# Altium schematic symbol library QUTMS-Project-AMU.SchLib: 104 symbols
Pins are listed as number, name and electrical type; pins without a type are passive.

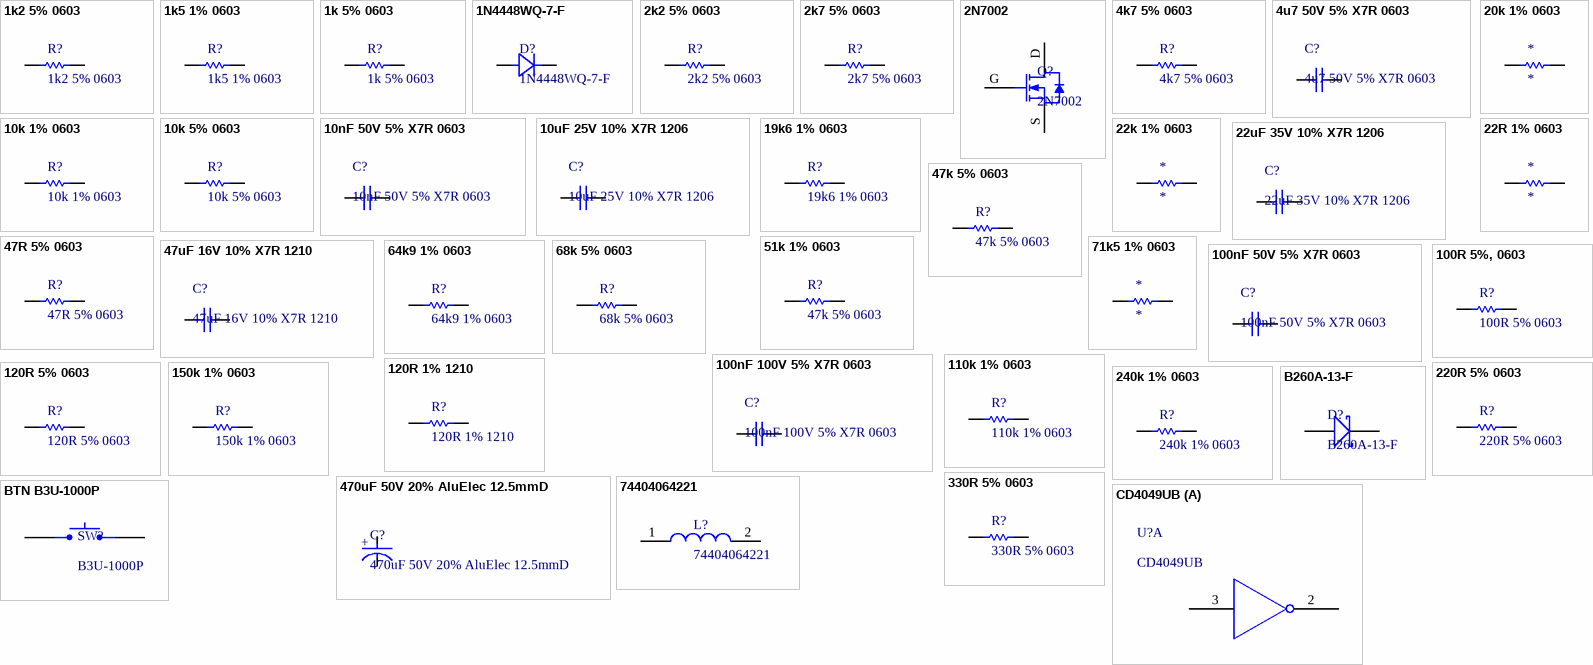
[diagram p0: symbols 1k2 5% 0603 to CD4049UB]

## 1k2 5% 0603
designator R?
Resistor, SMD, 1k2, 0.1W, 5%, 0603
footprint Res_ThinFilm_0603
pins: 1, 2

## 1k5 1% 0603
designator R?
Resistor, SMD, 1k5, 0.1W, 1%, 0603
footprint Res_ThinFilm_0603
pins: 1, 2

## 1k 5% 0603
designator R?
Resistor, SMD, 1k, 0.1W, 5%, 0603
footprint Res_ThinFilm_0603
pins: 1, 2

## 1N4448WQ-7-F
designator D?
Diode, SMD, 75V, 5%, 250mA, SOD123; Manufacturer: ON Semiconductor / Fairchild; Manufacturer Part Number: 1N914BWS; Average Rectified Current: 150mA; Element Configuration: Single; Forward Voltage: 1V; Max Reverse Leakage Current: 5uA; Power Dissipation: 200mW; Recovery Time: 4ns; Max Forward Surge Current (Ifsm): 4A; Parameter 1: *; Weight: 0.0276g; Category: Rectifier Diodes; Contact Plating: Tin,Matte; Forward Current: 150mA; Lead Free: Lead Free; Max Operating Temperature: 150°C; Max Repetitive Reverse Voltage (Vrrm): 75V; Max Reverse Voltage (DC): 75V; Min Operating Temperature: -55°C; Mount: Surface Mount; Number of Pins: 2; Package Quantity: 1; Packaging: Tape and Reel; Peak Reverse Current: 5uA; Radiation Hardening: No; REACH SVHC: No SVHC; Reverse Recovery Time: 4ns; Height: 1mm; Length: 1.8mm; Reverse Voltage: 75V; Width: 1.35mm
footprint SMA
pins: A Anode, K Cathode

## 2k2 5% 0603
designator R?
Resistor, SMD, 2k2, 0.1W, 5%, 0603
footprint Res_ThinFilm_0603
pins: 1, 2

## 2k7 5% 0603
designator R?
Resistor, SMD, 2k7, 0.1W, 5%, 0603
footprint Res_ThinFilm_0603
pins: 1, 2

## 2N7002
designator Q?
footprint SOT23-3 (SOT23, 3-Leads, Body 2.90x2.45mm, Pitch 0.95mm, IPC Medium Density)
pins: D, G, S

## 4k7 5% 0603
designator R?
Resistor, SMD, 4k7, 0.1W, 5%, 0603
footprint Res_ThinFilm_0603
pins: 1, 2

## 4u7 50V 5% X7R 0603
designator C?
Capacitor, Ceramic, SMD, 4u7, 50V, 5%, X7R, 0603
footprint Cap_Ceramic_0603
pins: 1, 2

## 10k 1% 0603
designator R?
Resistor, SMD, 10k, 0.1W, 1%, 0603
footprint Res_ThinFilm_0603
pins: 1, 2

## 10k 5% 0603
designator R?
Resistor, SMD, 10k, 0.1W, 5%, 0603
footprint Res_ThinFilm_0603
pins: 1, 2

## 10nF 50V 5% X7R 0603
designator C?
Capacitor, Ceramic, SMD, 10nF, 50V, 5%, X7R, 0603
footprint Cap_Ceramic_0603
pins: 1, 2

## 10uF 25V 10% X7R 1206
designator C?
Capacitor, Ceramic, SMD, 10uF, 25V, 10%, X7R, 1206
footprint Cap_Ceramic_1206
pins: 1, 2

## 19k6 1% 0603
designator R?
Resistor, SMD, 19k6, 0.1W, 5%, 0603
footprint Res_ThinFilm_0603
pins: 1, 2

## 20k 1% 0603
designator *
Resistor, SMD, 20k, 0.1W, 1%, 0603
footprint Res_ThinFilm_0603
pins: 1, 2

## 22k 1% 0603
designator *
Resistor, SMD, 22k, 0.1W, 1%, 0603
footprint Res_ThinFilm_0603
pins: 1, 2

## 22R 1% 0603
designator *
Resistor, SMD, 22R, 0.1W, 1%, 0603
footprint Res_ThinFilm_0603
pins: 1, 2

## 22uF 35V 10% X7R 1206
designator C?
Capacitor, Ceramic, SMD, 22uF, 35V, 10%, X7R, 1206
footprint Cap_Ceramic_1206
pins: 1, 2

## 47k 5% 0603
designator R?
Resistor, SMD, 47k, 0.1W, 5%, 0603
footprint Res_ThinFilm_0603
pins: 1, 2

## 47R 5% 0603
designator R?
Resistor, SMD, 47R, 0.1W, 5%, 0603
footprint Res_ThinFilm_0603
pins: 1, 2

## 47uF 16V 10% X7R 1210
designator C?
Capacitor, Ceramic, SMD, 47uF, 16V, 5%, X7R, 1210
footprint Cap_Ceramic_1210
pins: 1, 2

## 51k 1% 0603
designator R?, comment 47k 5% 0603
Resistor, SMD, 51k, 0.1W, 1%, 0603
footprint Res_ThinFilm_0603
pins: 1, 2

## 64k9 1% 0603
designator R?
Resistor, SMD, 64k9, 0.1W, 5%, 0603
footprint Res_ThinFilm_0603
pins: 1, 2

## 68k 5% 0603
designator R?
Resistor, SMD, 68k, 0.1W, 5%, 0603
footprint Res_ThinFilm_0603
pins: 1, 2

## 71k5 1% 0603
designator *
Resistor, SMD, 71k5, 0.1W, 1%, 0603
footprint Res_ThinFilm_0603
pins: 1, 2

## 100nF 50V 5% X7R 0603
designator C?
Capacitor, Ceramic, SMD, 100nF, 50V, 5%, X7R, 0603
footprint Cap_Ceramic_0603
pins: 1, 2

## 100nF 100V 5% X7R 0603
designator C?
Capacitor, Ceramic, SMD, 100nF, 100V, 5%, X7R, 0603
footprint Cap_Ceramic_0603
pins: 1, 2

## 100R 5%, 0603
designator R?, comment 100R 5% 0603
Resistor, SMD, 100R, 0.1W, 5%, 0603
footprint Res_ThinFilm_0603
pins: 1, 2

## 110k 1% 0603
designator R?
Resistor, SMD, 110k, 0.1W, 1%, 0603
footprint Res_ThinFilm_0603
pins: 1, 2

## 120R 1% 1210
designator R?
Resistor, SMD, 120R, 0.25W, 1%, 1210
footprint Res_ThinFilm_1210
pins: 1, 2

## 120R 5% 0603
designator R?
Resistor, SMD, 120R, 0.1W, 5%, 0603
footprint Res_ThinFilm_0603
pins: 1, 2

## 150k 1% 0603
designator R?
Resistor, SMD, 150k, 0.1W, 1%, 0603
footprint Res_ThinFilm_0603
pins: 1, 2

## 220R 5% 0603
designator R?
Resistor, SMD, 220R, 0.1W, 5%, 0603
footprint Res_ThinFilm_0603
pins: 1, 2

## 240k 1% 0603
designator R?
Resistor, SMD, 240k, 0.1W, 1%, 0603
footprint Res_ThinFilm_0603
pins: 1, 2

## 330R 5% 0603
designator R?
Resistor, SMD, 330R, 0.1W, 5%, 0603
footprint Res_ThinFilm_0603
pins: 1, 2

## 470uF 50V 20% AluElec 12.5mmD
designator C?
Capacitor, AluElec, SMD, 470F, 50V, 20%, AluElec, 12.5mmD
footprint CAL_ALU_12.5mmD_20mmL
pins: A, K
text: +

## 74404064221
designator L?
FIXED IND 220UH 660MA 850 MOHM; ComponentLink1Description: Digikey; ComponentLink1URL: https://www.digikey.com.au/product-detail/en/w%C3%BCrth-elektronik/74404064221/732-7261-1-ND/5353241; ComponentLink2Description: LCSC A; ComponentLink2URL: https://lcsc.com/product-detail/Power-Inductors_Sunlord-SWPA6045S221MT_C91047.html; ComponentLink3Description: LCSC B; ComponentLink3URL: https://lcsc.com/product-detail/Power-Inductors_SXN-Shun-Xiang-Nuo-Elec-SMNR6045-221MT_C467145.html
footprint Inductor_6x6mm
pins: 1, 2

## B260A-13-F
designator D?
Diode, Schottky Barrier Rectifier, 60 V, 2 A, B260A-13-F
footprint SMA
pins: A, K

## BTN B3U-1000P
designator SW?, comment B3U-1000P
Omron B3U-1000P Ultra Miniture Switch; ComponentLink1Description: LCSC; ComponentLink1URL: https://lcsc.com/product-detail/Tactile-Switches_BRIGHT-TSA063G50-250_C294565.html
footprint BTN B3U-1000P (OMRON B3U-1000P)
pins: 1, 2

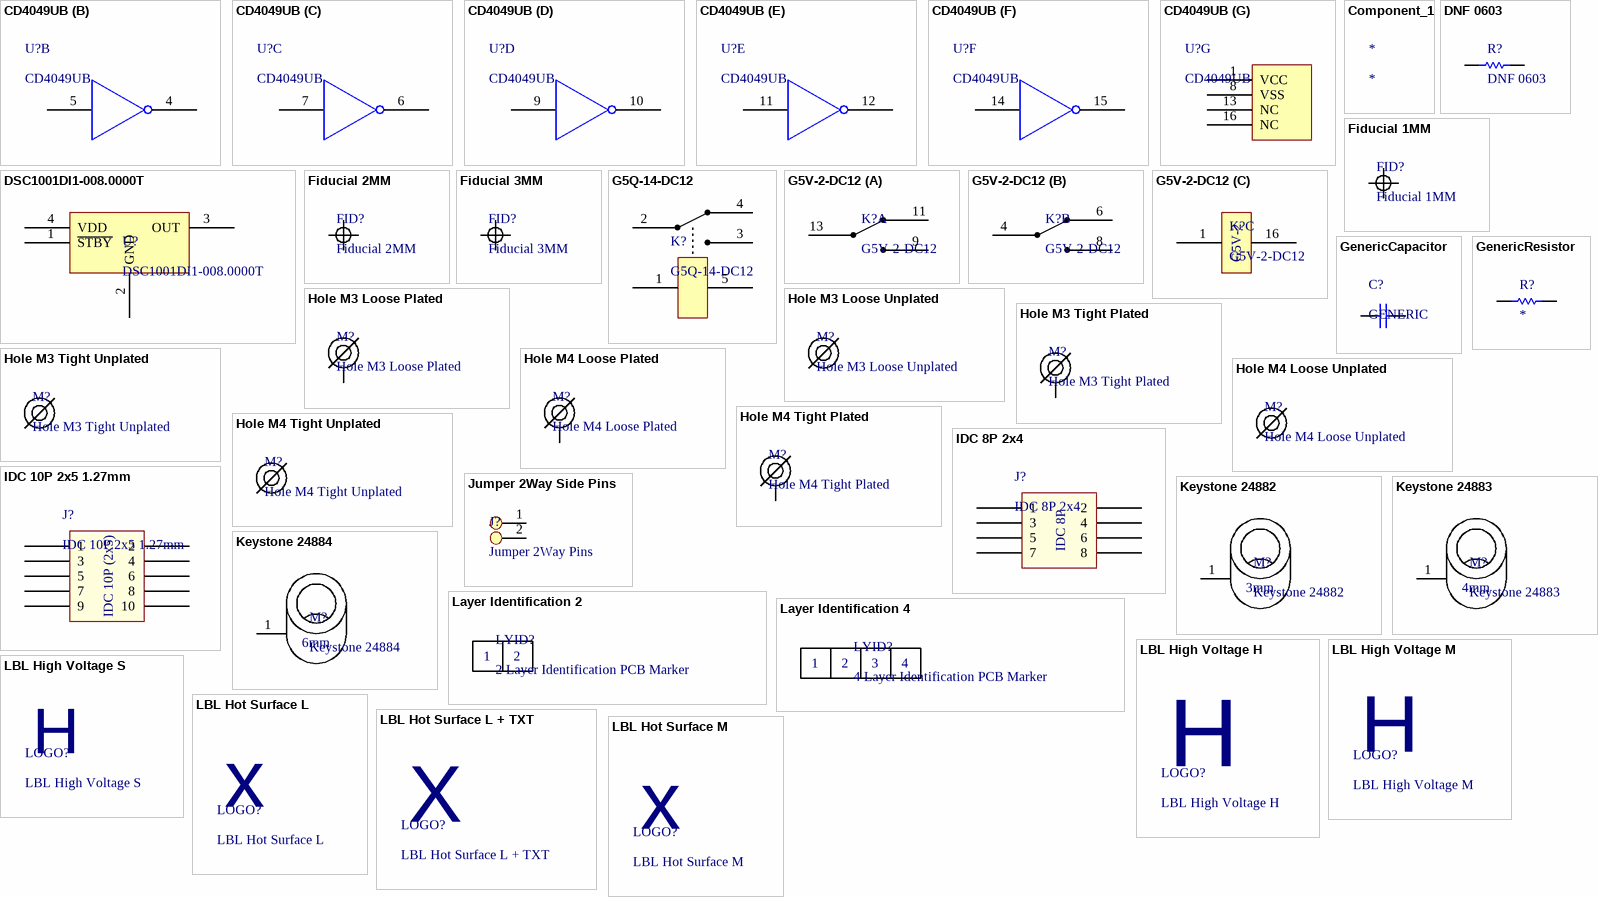
[diagram p1: symbols CD4049UB to LBL Hot Surface M]

## CD4049UB
designator U?
footprint CD4049UB
part A pins: 2 G, 3 A
part B pins: 4 H, 5 B
part C pins: 6 I, 7 C
part D pins: 9 D, 10 J
part E pins: 11 E, 12 K
part F pins: 14 F, 15 L
part G pins: 1 VCC, 8 VSS, 13 NC, 16 NC

## Component_1
designator *

## DNF 0603
designator R?
Resistor, SMD, DNF, 0.1W, 0603
footprint Res_ThinFilm_0603
pins: 1, 2

## DSC1001DI1-008.0000T
designator U?
8MHz XO (Standard) CMOS Oscillator 1.8 ~ 3.3V Standby (Power Down) 4-SMD, No Lead
footprint DSC1001DI1-008.0000TCT-ND
pins: 1 ~{STBY}, 2 GND, 3 OUT, 4 VDD

## Fiducial 1MM
designator FID?  (no BOM)
footprint FIDUCIAL 1MM

## Fiducial 2MM
designator FID?  (no BOM)
footprint FIDUCIAL 2MM

## Fiducial 3MM
designator FID?  (no BOM)
footprint FIDUCIAL 3MM

## G5Q-14-DC12
designator K?
General Purpose Relay SPDT (1 Form C) 12VDC Coil Through Hole, 12V, 16A
footprint G5Q-14
pins: 1, 2, 3, 4, 5

## G5V-2-DC12
designator K?
General Purpose Relay DPDT (2 Form C) Through Hole, 12V, 2A
footprint G5V-2
part A pins: 9, 11, 13
part B pins: 4, 6, 8
part C pins: 1, 16
part C text: G5V-2

## GenericCapacitor
designator C?, comment GENERIC
footprint Cap_Ceramic_0603
footprint Cap_Ceramic_0805
footprint Cap_Ceramic_1206
footprint Cap_Ceramic_1210
footprint Cap_Ceramic_1812
footprint Cap_Ceramic_1825
pins: 1, 2

## GenericResistor
designator R?
footprint Res_ThinFilm_0603
footprint Res_ThinFilm_0805
footprint Res_ThinFilm_1206
footprint Res_ThinFilm_1210
footprint Res_ThinFilm_1812
pins: 1, 2

## Hole M3 Loose Plated
designator M?  (no BOM)
M3.5 Hole, Plated
footprint M3.5 PLATED
pins: 1

## Hole M3 Loose Unplated
designator M?  (no BOM)
M3.5 Hole, No Plating
footprint M3.5 UNPLATED

## Hole M3 Tight Plated
designator M?  (no BOM)
M3.2 Hole, Plated
footprint M3.2 PLATED
pins: 1

## Hole M3 Tight Unplated
designator M?  (no BOM)
M3.2 Hole, No Plating
footprint M3.2 UNPLATED

## Hole M4 Loose Plated
designator M?  (no BOM)
M4.5 Hole, Plated
footprint M4.5 PLATED
pins: 1

## Hole M4 Loose Unplated
designator M?  (no BOM)
M4.5 Hole, No Plating
footprint M4.5 UNPLATED

## Hole M4 Tight Plated
designator M?  (no BOM)
M4.2 Hole, Plated
footprint M4.2 PLATED
pins: 1

## Hole M4 Tight Unplated
designator M?  (no BOM)
M4.2 Hole, No Plating
footprint M4.2 UNPLATED

## IDC 8P 2x4
designator J?
footprint IDC 2.54MM 8P
pins: 1, 2, 3, 4, 5, 6, 7, 8
text: IDC 8P

## IDC 10P 2x5 1.27mm
designator J?
footprint IDC 1.27MM 10P
pins: 1, 2, 3, 4, 5, 6, 7, 8, 9, 10
text: IDC 10P (2x5)

## Jumper 2Way Side Pins
designator J?, comment Jumper 2Way Pins
Jumper 2Way Side Pins
footprint Jumper_2Way_Pin
pins: 1, 2

## Keystone 24882
designator M?
Round Standoff Threaded M3x0.5 Steel 0.120" (3.05mm)
footprint Keystone 24882
pins: 1
text: 3mm

## Keystone 24883
designator M?
Round Standoff Threaded M3x0.5 Steel 0.160" (4.06mm)
footprint Keystone 24883
pins: 1
text: 4mm

## Keystone 24884
designator M?
Round Standoff Threaded M3x0.5 Steel 0.236" (5.99mm)
footprint Keystone 24884
pins: 1
text: 6mm

## Layer Identification 2
designator LYID?, comment 2 Layer Identification PCB Marker  (no BOM)
footprint LAYER IDENT 2
text: 1; 2

## Layer Identification 4
designator LYID?, comment 4 Layer Identification PCB Marker  (no BOM)
footprint LAYER IDENT 4
text: 1; 2; 3; 4

## LBL High Voltage H
designator LOGO?  (no BOM)
footprint LBL HV LARGE
text: H

## LBL High Voltage M
designator LOGO?  (no BOM)
footprint LBL HV MEDIUM
text: H

## LBL High Voltage S
designator LOGO?  (no BOM)
footprint LBL HV SMALL
text: H

## LBL Hot Surface L
designator LOGO?  (no BOM)
footprint LBL HOT LARGE
text: x

## LBL Hot Surface L + TXT
designator LOGO?  (no BOM)
footprint LBL HOT LARGE TXT
text: X

## LBL Hot Surface M
designator LOGO?  (no BOM)
footprint LBL HOT MEDIUM
text: x

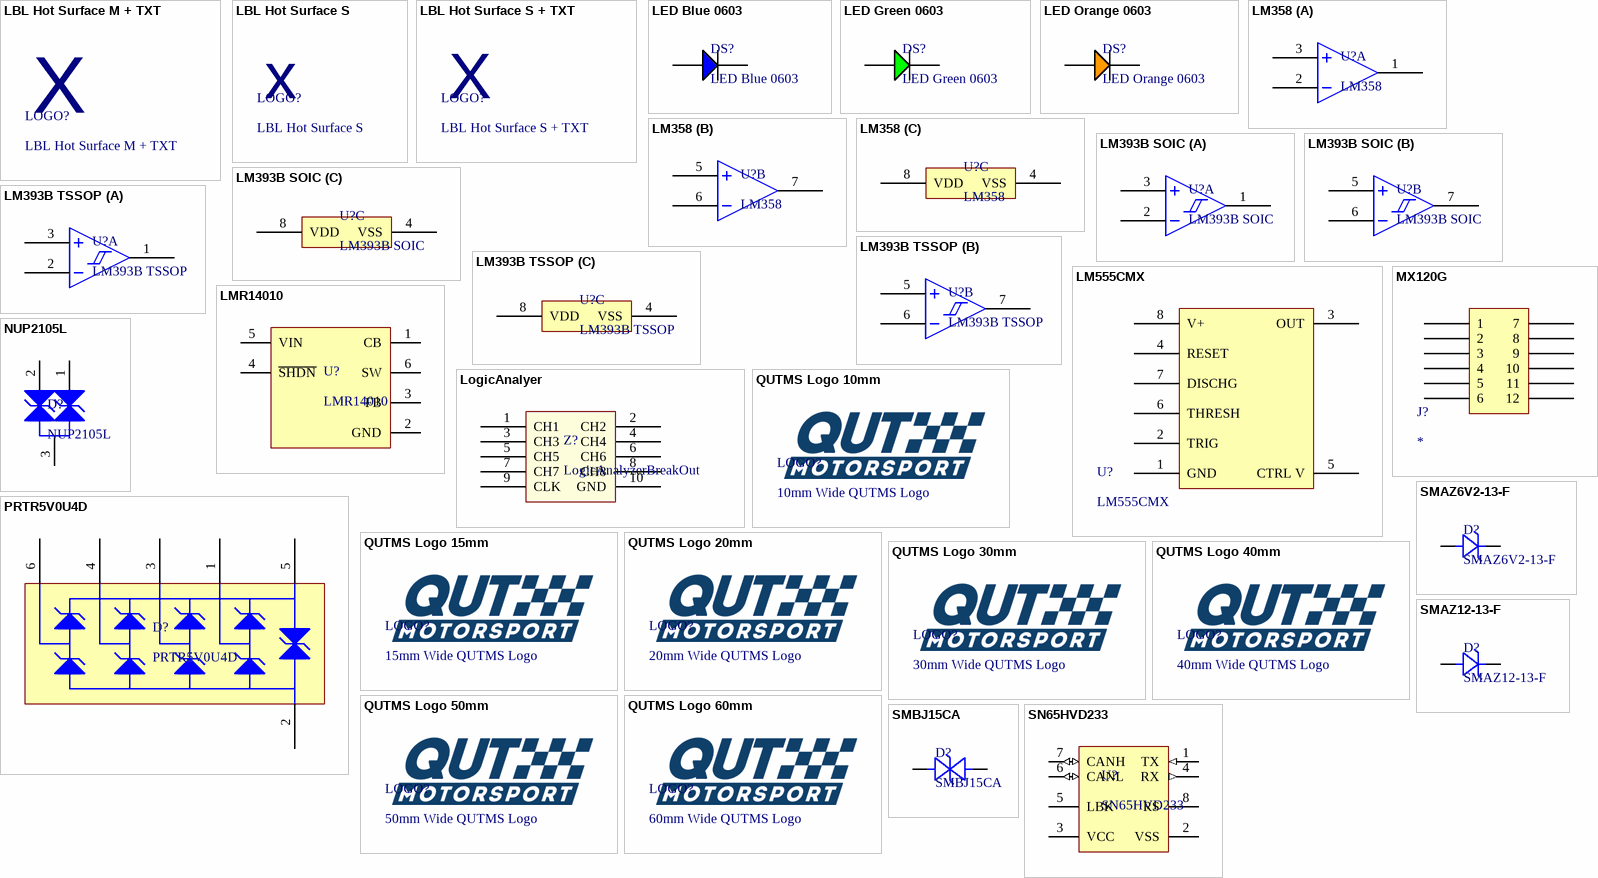
[diagram p2: symbols LBL Hot Surface M + TXT to SN65HVD233]

## LBL Hot Surface M + TXT
designator LOGO?  (no BOM)
footprint LBL HOT MEDIUM TXT
text: X

## LBL Hot Surface S
designator LOGO?  (no BOM)
footprint LBL HOT SMALL
text: x

## LBL Hot Surface S + TXT
designator LOGO?  (no BOM)
footprint LBL HOT SMALL TXT
text: X

## LED Blue 0603
designator DS?
footprint LED BLUE 0603
pins: 1 A, 2 C

## LED Green 0603
designator DS?
footprint LED GREEN 0603
pins: 1 A, 2 C

## LED Orange 0603
designator DS?
footprint LED ORANGE 0603
pins: 1 A, 2 C

## LM358
designator U?
General Purpose Amplifier 2 Circuit 8-SOIC
footprint SOIC-8
part A pins: 1 OUT1, 2 IN1-, 3 IN1+
part B pins: 5 IN2+, 6 IN2-, 7 OUT1
part C pins: 4 VSS, 8 VDD

## LM393B SOIC
designator U?
Comparator General Purpose Open-Collector 8-SOIC
footprint SOIC-8
part A pins: 1 OUT1, 2 IN1-, 3 IN1+
part B pins: 5 IN2+, 6 IN2-, 7 OUT1
part C pins: 4 VSS, 8 VDD

## LM393B TSSOP
designator U?
Comparator Differential CMOS, MOS, Open-Drain, TTL 8-TSSOP
footprint TSSOP-8
part A pins: 1 OUT1, 2 IN1-, 3 IN1+
part B pins: 5 IN2+, 6 IN2-, 7 OUT1
part C pins: 4 VSS, 8 VDD

## LM555CMX
designator U?
555 Type, Timer/Oscillator (Single) IC 100kHz 8-SOIC; ComponentLink1Description: Digikey; ComponentLink1URL: https://www.digikey.com.au/product-detail/en/texas-instruments/LM555CMX%2FNOPB/LM555CMX%2FNOPBCT-ND/1010545?utm_adgroup=Integrated%20Circuits&utm_source=google&utm_medium=cpc&utm_campaign=Dynamic%20Search_EN_Product&utm_term=&productid=&gclid=CjwKCAjwr7X4BRA4EiwAUXjbt-N3vibcCncJp7dB6lpBrLRT-QxYTJoHZmGPqFSswFIeP9Lhu7cYVBoCjmMQAvD_BwE; ComponentLink2Description: Datasheet; ComponentLink2URL: https://www.ti.com/general/docs/suppproductinfo.tsp?distId=10&gotoUrl=http%3A%2F%2Fwww.ti.com%2Flit%2Fgpn%2Flm555
footprint 8-SOIC
pins: 1 GND, 2 TRIG, 3 OUT, 4 RESET, 5 CTRL V, 6 THRESH, 7 DISCHG, 8 V+

## LMR14010
designator U?
Buck Switching Regulator IC Positive Adjustable 0.765V 1 Output 1A SOT-23-6 Thin, TSOT-23-6
footprint LMR14010
pins: 1 CB, 2 GND, 3 FB, 4 ~{SHDN}, 5 VIN, 6 SW

## LogicAnalyer
designator Z?, comment LogicAnalyzerBreakOut
footprint LogicAnalyzer
pins: 1 CH1, 2 CH2, 3 CH3, 4 CH4, 5 CH5, 6 CH6, 7 CH7, 8 CH8, 9 CLK, 10 GND

## MX120G
designator J?
MX120G with standard connector layout
footprint MX120G
pins: 1, 2, 3, 4, 5, 6, 7, 8, 9, 10, 11, 12

## NUP2105L
designator D?
ComponentLink1Description: Datasheet; ComponentLink1URL: https://www.onsemi.cn/PowerSolutions/document/NUP2105L-D.PDF; ComponentLink2Description: LCSC; ComponentLink2URL: https://lcsc.com/product-detail/TVS_ON-Semiconductor-NUP2105LT1G_C14486.html; ComponentLink3Description: Digikey; ComponentLink3URL: https://www.digikey.com.au/product-detail/en/on-semiconductor/SZNUP2105LT1G/SZNUP2105LT1GOSCT-ND/3487669
footprint NUP2105L
pins: 1, 2, 3

## PRTR5V0U4D
designator D?
Clamp Ipp Tvs Diode Surface Mount 6-TSOP
footprint SC-47
pins: 1 P1, 2 GND, 3 P2, 4 P3, 5 VCC, 6 P4

## QUTMS Logo 10mm
designator LOGO?, comment 10mm Wide QUTMS Logo  (no BOM)
footprint QUTMS LOGO 10MM

## QUTMS Logo 15mm
designator LOGO?, comment 15mm Wide QUTMS Logo  (no BOM)
footprint QUTMS LOGO 15MM

## QUTMS Logo 20mm
designator LOGO?, comment 20mm Wide QUTMS Logo  (no BOM)
footprint QUTMS LOGO 20MM

## QUTMS Logo 30mm
designator LOGO?, comment 30mm Wide QUTMS Logo  (no BOM)
footprint QUTMS LOGO 30MM

## QUTMS Logo 40mm
designator LOGO?, comment 40mm Wide QUTMS Logo  (no BOM)
footprint QUTMS LOGO 40MM

## QUTMS Logo 50mm
designator LOGO?, comment 50mm Wide QUTMS Logo  (no BOM)
footprint QUTMS LOGO 50MM

## QUTMS Logo 60mm
designator LOGO?, comment 60mm Wide QUTMS Logo  (no BOM)
footprint QUTMS LOGO 60MM

## SMAZ6V2-13-F
designator D?
Zener Diode 6.2V 1W ±5% Surface Mount SMA; Manufacturer: Generic; MPN: 5V6 500mW SMA
footprint SMA
pins: A Anode, K Cathode

## SMAZ12-13-F
designator D?
Zener Diode 12V 1W ±5% Surface Mount SMA; ComponentLink1Description: Datasheet:; ComponentLink1URL: https://www.diodes.com/assets/Datasheets/ds18015.pdf
footprint SMA
pins: A Anode, K Cathode

## SMBJ15CA
designator D?
Diode, SMD, TVS Diode, 15V 24.4V, DO214AA/SMB; ComponentLink1Description: Digikey; ComponentLink1URL: https://www.digikey.com.au/product-detail/en/littelfuse-inc/SMBJ15CA/SMBJ15CALFCT-ND/285983; ComponentLink2Description: Datasheet; ComponentLink2URL: https://www.littelfuse.com/~/media/electronics/datasheets/tvs_diodes/littelfuse_tvs_diode_smbj_datasheet.pdf.pdf
footprint SMB
pins: A Anode, K Cathode

## SN65HVD233
designator U?
ComponentLink1Description: LCSC; ComponentLink1URL: https://lcsc.com/product-detail/CAN-ICs_Texas-Instruments_SN65HVD233DRG4_Texas-Instruments-Texas-Instruments-SN65HVD233DRG4_C61643.html; ComponentLink2Description: Digikey; ComponentLink2URL: https://www.digikey.com.au/product-detail/en/texas-instruments/SN65HVD233DR/296-35967-1-ND/4134960; ComponentLink3Description: Datasheet; ComponentLink3URL: https://www.ti.com/lit/ds/symlink/sn65hvd233.pdf?ts=1588560888178; ComponentLink4Description: Ti Product Page; ComponentLink4URL: https://www.ti.com/product/SN65HVD233
footprint SN65HVD233DR
pins: 1 TX (in), 2 VSS, 3 VCC, 4 RX (out), 5 LBK, 6 CANL (io), 7 CANH (io), 8 RS

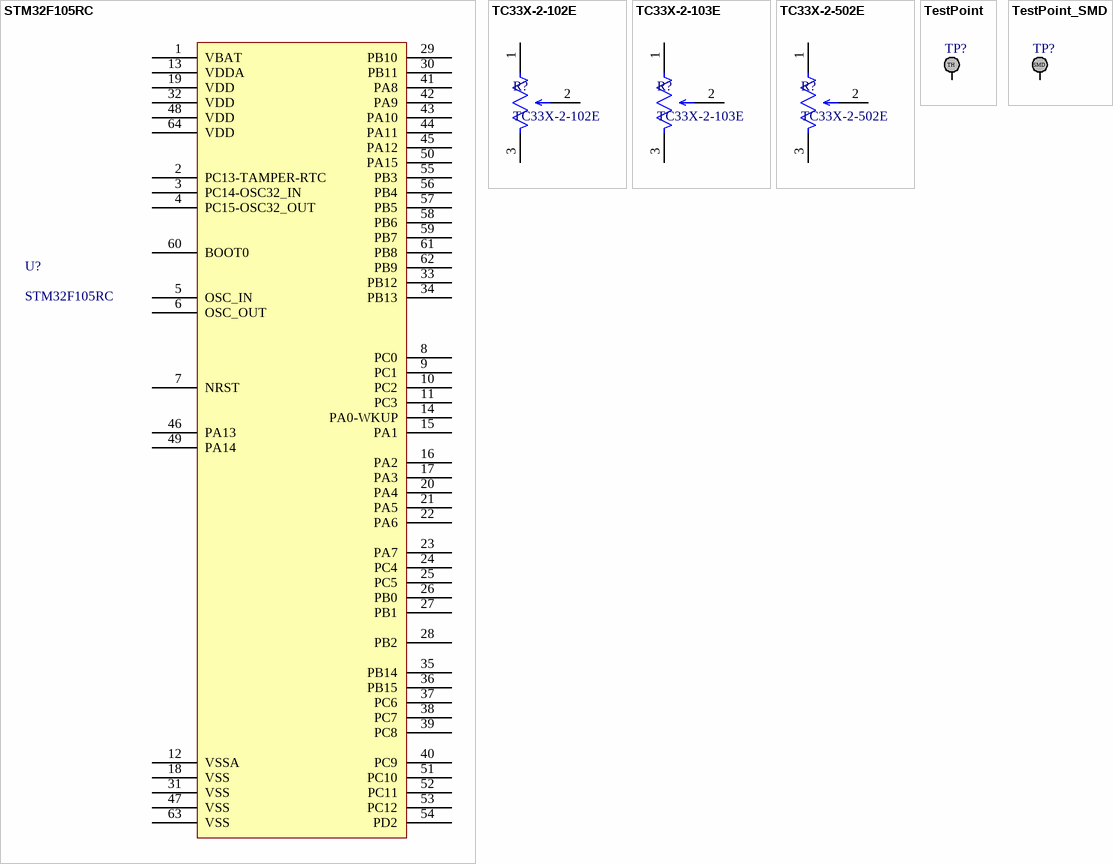
[diagram p3: symbols STM32F105RC to TestPoint_SMD]

## STM32F105RC
designator U?
ARM® Cortex®-M3 STM32F1 Microcontroller IC 32-Bit 72MHz 256KB (256K x 8) FLASH 64-LQFP (10x10); ComponentLink1Description: Digikey; ComponentLink1URL: https://www.digikey.com.au/product-detail/en/stmicroelectronics/STM32F105RCT6TR/497-17397-1-ND/8024118; ComponentLink2Description: Datasheet; ComponentLink2URL: https://www.st.com/content/ccc/resource/technical/document/datasheet/e4/f3/1a/89/5a/02/46/ae/CD00220364.pdf/files/CD00220364.pdf/jcr:content/translations/en.CD00220364.pdf
footprint STM32F105RC
pins: 1 VBAT, 2 PC13-TAMPER-RTC, 3 PC14-OSC32_IN, 4 PC15-OSC32_OUT, 5 OSC_IN, 6 OSC_OUT, 7 NRST, 8 PC0, 9 PC1, 10 PC2, 11 PC3, 12 VSSA, 13 VDDA, 14 PA0-WKUP, 15 PA1, 16 PA2, 17 PA3, 18 VSS, 19 VDD, 20 PA4, 21 PA5, 22 PA6, 23 PA7, 24 PC4, 25 PC5, 26 PB0, 27 PB1, 28 PB2, 29 PB10, 30 PB11, 31 VSS, 32 VDD, 33 PB12, 34 PB13, 35 PB14, 36 PB15, 37 PC6, 38 PC7, 39 PC8, 40 PC9, 41 PA8, 42 PA9, 43 PA10, 44 PA11, 45 PA12, 46 PA13, 47 VSS, 48 VDD, 49 PA14, 50 PA15, 51 PC10, 52 PC11, 53 PC12, 54 PD2, 55 PB3, 56 PB4, 57 PB5, 58 PB6, 59 PB7, 60 BOOT0, 61 PB8, 62 PB9, 63 VSS, 64 VDD

## TC33X-2-102E
designator R?
1 kOhms 0.1W, 1/10W J Lead Surface Mount Trimmer Potentiometer Cermet 1 Turn Top Adjustment
footprint TC33 (3 mm SMD Trimpot® Trimming Potentiometer)
pins: 1, 2, 3

## TC33X-2-103E
designator R?
10 kOhms 0.1W, 1/10W J Lead Surface Mount Trimmer Potentiometer Cermet 1 Turn Top Adjustment
footprint TC33 (3 mm SMD Trimpot® Trimming Potentiometer)
pins: 1, 2, 3

## TC33X-2-502E
designator R?
5 kOhms 0.1W, 1/10W J Lead Surface Mount Trimmer Potentiometer Cermet 1 Turn Top Adjustment
pins: 1, 2, 3

## TestPoint
designator TP?
footprint TestPoint
pins: 1
text: TH

## TestPoint_SMD
designator TP?
footprint TestPointSMD
pins: 1
text: SMD